# Altium schematic symbol library 05E_Logic.SchLib: 3 symbols
Pins are listed as number, name and electrical type; pins without a type are passive.

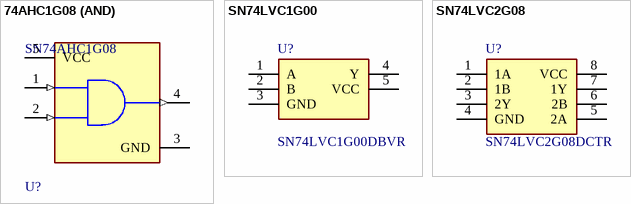
[diagram p0: symbols 74AHC1G08 (AND) to SN74LVC2G08]

## 74AHC1G08 (AND)
designator U?, comment SN74AHC1G08
IC GATE AND 1CH 2-INP SOT23-5; Logic Function: AND GATE; RoHS Compliant: Yes; Supplier 1: Mouser; Supplier 2: Digi-Key; Supplier Part Number 2: 296-1091-1-ND; Supplier Part Number 1: 595-SN74AHC1G08DBVR
footprint SN74AHC1G08_SOT23
pins: 1 A (in), 2 B (in), 3 GND (power), 4 Y (out), 5 VCC (power)

## SN74LVC1G00
designator U?, comment SN74LVC1G00DBVR
SINGLE 2-INPUT POSITIVE-NAND GATE; Manufacturer_Name: Texas Instruments; Geometry.Height: 1.45mm; Manufacturer_Part_Number: SN74LVC1G00DBVR; Datasheet Link: http://www.ti.com/lit/gpn/sn74lvc1g00; Supplier 1: Mouser; Supplier 2: Digi-Key; Supplier Part Number 2: 296-9845-1-ND; Supplier Part Number 1: 595-SN74LVC1G00DBVR
footprint SN74LVC1G00_SOT23
pins: 1 A, 2 B, 3 GND, 4 Y, 5 VCC

## SN74LVC2G08
designator U?, comment SN74LVC2G08DCTR
AND Gate Dual 2-IN CMOS 8-Pin SSOP SN74LVC2G08, Logic Gate Dual 2 Input AND, LVC; Manufacturer_Name: Texas Instruments; Geometry.Height: 1.3mm; Manufacturer_Part_Number: SN74LVC2G08DCTR; Datasheet Link: http://www.ti.com/lit/ds/symlink/sn74lvc2g08.pdf; Supplier 1: Mouser; Supplier 2: Digi-Key; Supplier Part Number 2: 296-13263-1-ND; Supplier Part Number 1: 595-SN74LVC2G08DCTR
footprint SN74LVC2G08_SOP8N
pins: 1 1A, 2 1B, 3 2Y, 4 GND, 5 2A, 6 2B, 7 1Y, 8 VCC